# EAGLE library part LT1990 (library FSAE Electric)
The LT1990 is a micropower precision difference amplifier with a very high common mode input voltage range. It has pin selectable gains of 1 or 10. The LT1990 operates over a ±250V common mode voltage range on a ±15V supply. The inputs are fault protected from common mode voltage transients up to ±350V and differential voltages up to ±500V. The LT1990 is ideally suited for both high side and low side current or voltage monitoring.
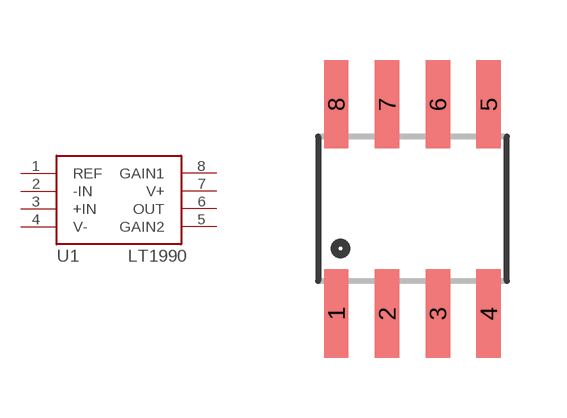
[diagram p71: symbol with the pads of SO-8; footprint SO-8]

Designator prefix U1

## LT1990 (PARTNO: LT1990CS8#PBF)  [SO-8]
1  REF
2  -IN
3  +IN
4  V-
5  GAIN2
6  OUT
7  V+
8  GAIN1

## Footprint SO-8 (pad centres in mm)
smd 0.61 x 2.21: 1 -1.905,-2.616; 2 -0.635,-2.616; 3 0.635,-2.616; 4 1.905,-2.616; 5 1.905,2.616; 6 0.635,2.616; 7 -0.635,2.616; 8 -1.905,2.616